# EAGLE library part TD1208 (library Mebius)
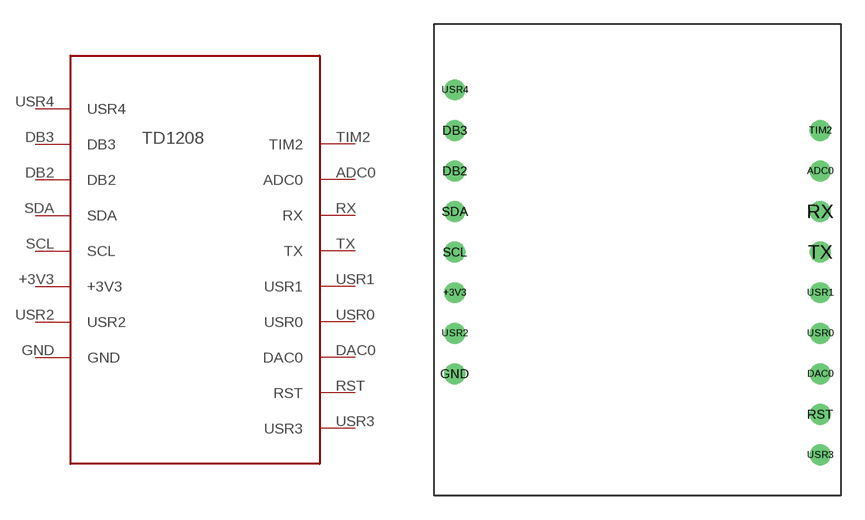
[diagram p3: symbol with the pads of TD1208; footprint TD1208]

Designator prefix -

## TD1208  [TD1208]
+3V3  +3V3
ADC0  ADC0
DAC0  DAC0
DB2  DB2
DB3  DB3
GND  GND
RST  RST
RX  RX
SCL  SCL
SDA  SDA
TIM2  TIM2
TX  TX
USR0  USR0
USR1  USR1
USR2  USR2
USR3  USR3
USR4  USR4

## Footprint TD1208 (pad centres in mm)
drill 0.8: +3V3 -11.43,-1.27; ADC0 11.43,6.35; DAC0 11.43,-6.35; DB2 -11.43,6.35; DB3 -11.43,8.89; GND -11.43,-6.35; RST 11.43,-8.89; RX 11.43,3.81; SCL -11.43,1.27; SDA -11.43,3.81; TIM2 11.43,8.89; TX 11.43,1.27; USR0 11.43,-3.81; USR1 11.43,-1.27; USR2 -11.43,-3.81; USR3 11.43,-11.43; USR4 -11.43,11.43